# Altium schematic symbol library U_ZXTR210.SchLib: 1 symbol
Pins are listed as number, name and electrical type; pins without a type are passive.

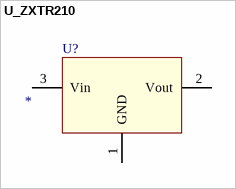
[diagram p0: symbol U_ZXTR210]

## U_ZXTR210
designator U?
pins: 1 GND, 2 Vout, 3 Vin